# EAGLE library part MAX6921 (library candrian)
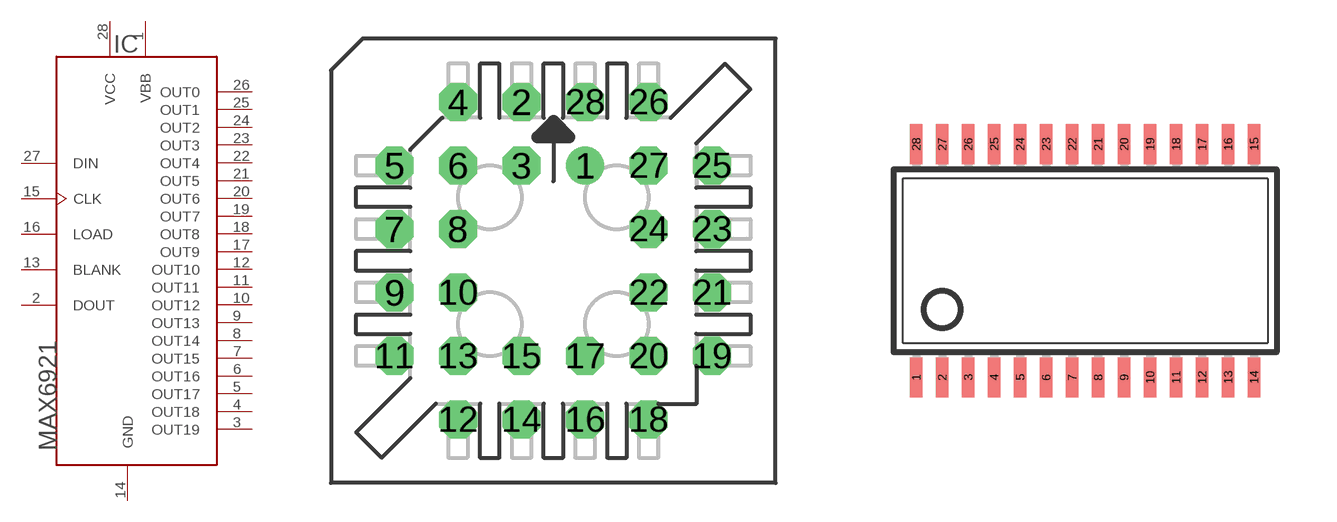
[diagram p5: symbol with the pads of PLCC-S28; footprints PLCC-S28, TSSOP28]

Designator prefix IC

## MAX6921PLCC-S28  [PLCC-S28]
1  VBB  sup
2  DOUT  out
3  OUT19  out
4  OUT18  out
5  OUT17  out
6  OUT16  out
7  OUT15  out
8  OUT14  out
9  OUT13  out
10  OUT12  out
11  OUT11  out
12  OUT10  out
13  BLANK  in
14  GND  sup
15  CLK  in
16  LOAD  in
17  OUT9  out
18  OUT8  out
19  OUT7  out
20  OUT6  out
21  OUT5  out
22  OUT4  out
23  OUT3  out
24  OUT2  out
25  OUT1  out
26  OUT0  out
27  DIN  in
28  VCC  pwr

## MAX6921TSSOP28  [TSSOP28]
Pads as for PLCC-S28

## Footprint PLCC-S28 (pad centres in mm)
drill 0.8 pad 1.524: 1 1.27,3.81
drill 0.8 pad 1.524 octagon: 2 -1.27,6.35; 3 -1.27,3.81; 4 -3.81,6.35; 5 -6.35,3.81; 6 -3.81,3.81; 7 -6.35,1.27; 8 -3.81,1.27; 9 -6.35,-1.27; 10 -3.81,-1.27; 11 -6.35,-3.81; 12 -3.81,-6.35; 13 -3.81,-3.81; 14 -1.27,-6.35; 15 -1.27,-3.81; 16 1.27,-6.35; 17 1.27,-3.81; 18 3.81,-6.35; 19 6.35,-3.81; 20 3.81,-3.81; 21 6.35,-1.27; 22 3.81,-1.27; 23 6.35,1.27; 24 3.81,1.27; 25 6.35,3.81; 26 3.81,6.35; 27 3.81,3.81; 28 1.27,6.35

## Footprint TSSOP28 (pad centres in mm)
smd 0.305 x 0.991: 1 -3.955,-2.388; 2 -3.305,-2.388; 3 -2.655,-2.388; 4 -2.005,-2.388; 5 -1.355,-2.388; 6 -0.705,-2.388; 7 -0.055,-2.388; 8 0.595,-2.388; 9 1.245,-2.388; 10 1.895,-2.388; 11 2.545,-2.388; 12 3.195,-2.388; 13 3.845,-2.388; 14 4.495,-2.388; 15 4.495,3.448; 16 3.845,3.448; 17 3.195,3.448; 18 2.545,3.448; 19 1.895,3.448; 20 1.245,3.448; 21 0.595,3.448; 22 -0.055,3.448; 23 -0.705,3.448; 24 -1.355,3.448; 25 -2.005,3.448; 26 -2.655,3.448; 27 -3.305,3.448; 28 -3.955,3.448